# EAGLE library part MC34063*? (library MC34063A)
ST Microelectronics
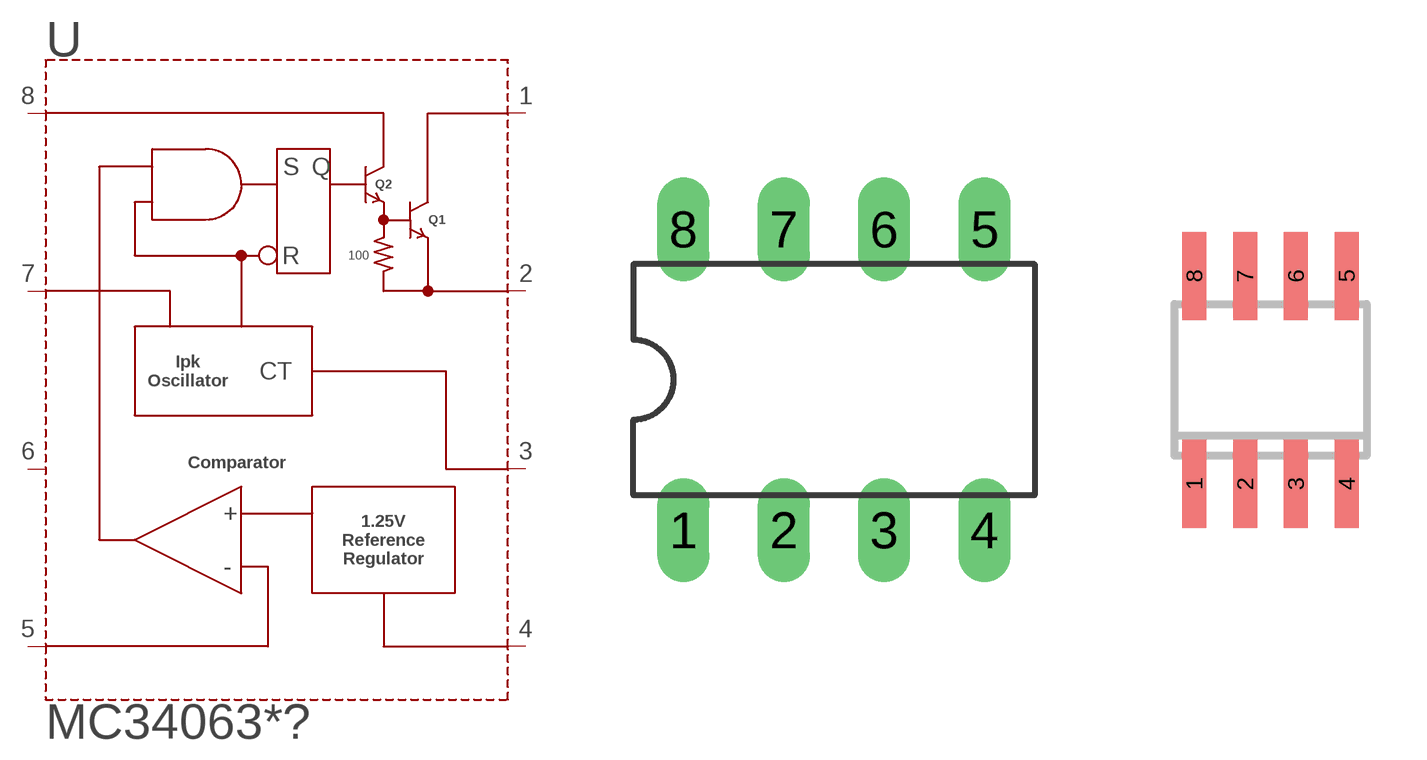
[diagram p2: symbol with the pads of DIL08; footprints DIL08, SO08]

Designator prefix U

## MC34063ABN, MC34063ACN, MC34063EBN, MC34063ECN  [DIL08]
1  1
2  2
3  3
4  4
5  5
6  6
7  7
8  8

## MC34063ABD, MC34063ACD, MC34063EBD, MC34063ECD  [SO08]
Pads as for DIL08

## Footprint DIL08 (pad centres in mm)
Dual In Line Package
drill 0.813 long: 1 -3.81,-3.81; 2 -1.27,-3.81; 3 1.27,-3.81; 4 3.81,-3.81; 5 3.81,3.81; 6 1.27,3.81; 7 -1.27,3.81; 8 -3.81,3.81

## Footprint SO08 (pad centres in mm)
SMALL OUTLINE INTEGRATED CIRCUIT body 3.9 mm/JEDEC MS-012AA
smd 0.6 x 2.2: 1 -1.905,-2.6; 2 -0.635,-2.6; 3 0.635,-2.6; 4 1.905,-2.6; 5 1.905,2.6; 6 0.635,2.6; 7 -0.635,2.6; 8 -1.905,2.6